# Altium footprint library SL_Resistors_Float.PcbLib: 1 footprints
Each footprint in its own frame and in the unit in brackets; x right, y up, seen from the top. Pads: shape width x height; smd on the part's side, far side on the other; paste and mask are expansions set on the pad; w line width, h text height; cw(c..) or ccw(c..) is an arc to the next point about the centre after c.
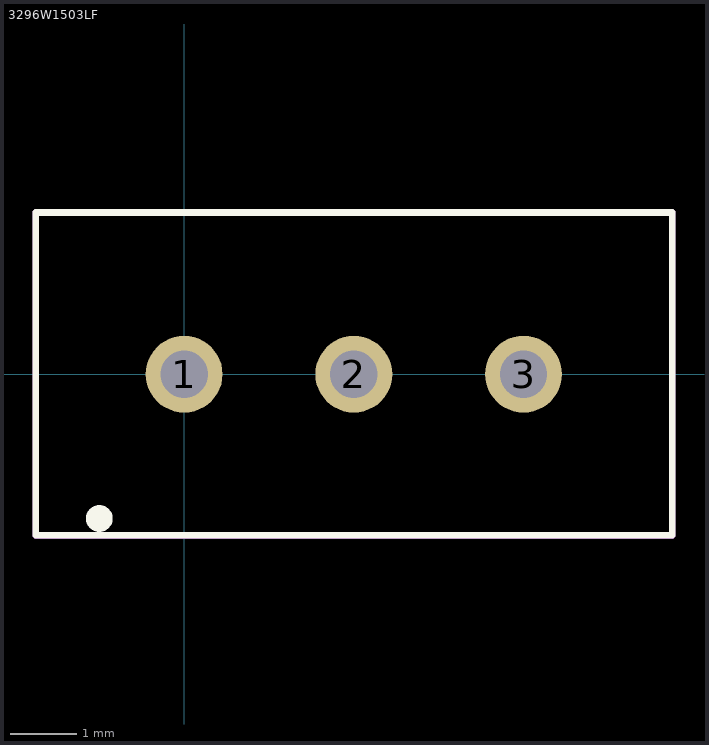
[diagram p0: the footprint, top view; thin cyan lines are the x and y axes]

## 3296W1503LF [mm]
pads (3):
  round 1.15 hole 0.71: 1(0,0) 2(2.54,0) 3(5.08,0)
Top Overlay:
  circle w0.2: c-1.27,-2.159 r0.1
  lines w0.1: -2.22,-2.41 7.305,-2.41 7.305,2.42 -2.22,2.42 -2.22,-2.41
Mechanical 13:
  lines w0.1: -2.22,-2.41 7.305,-2.41 7.305,2.42 -2.22,2.42 -2.22,-2.41
Mechanical 15:
  lines w0.1: -2.22,-2.413 7.305,-2.413 7.305,2.415 -2.22,2.415 -2.22,-2.413
3D body "3296W-1-103LF.stp": height 11.54, standoff -6.41, extent -2.22,-2.411 7.305,2.415